# Altium integrated library Molex Pico SPOX 6 POS RA.IntLib: 1 symbol
Pins are listed as number, name and electrical type; pins without a type are passive.

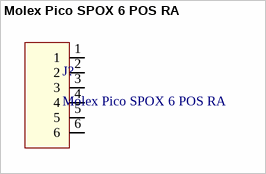
[diagram p0: symbol Molex Pico SPOX 6 POS RA]

## Molex Pico SPOX 6 POS RA
designator J?
footprint PCBComponent_1
pins: 1, 2, 3, 4, 5, 6